# Altium footprint library MCP601T-E_OT.PcbLib: 1 footprints
Each footprint in its own frame and in the unit in brackets; x right, y up, seen from the top. Pads: shape width x height; smd on the part's side, far side on the other; paste and mask are expansions set on the pad; w line width, h text height; cw(c..) or ccw(c..) is an arc to the next point about the centre after c.
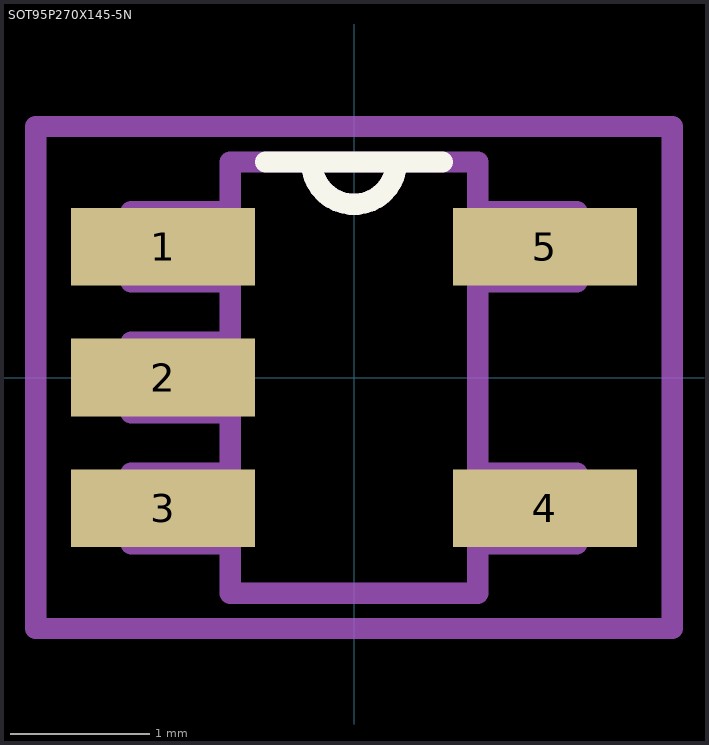
[diagram p0: the footprint, top view; thin cyan lines are the x and y axes]

## SOT95P270X145-5N [mil]
pads (5):
  rect 52x22 smd: 1(-54,37) 2(-54,0) 3(-54,-37) 4(54,-37) 5(54,37)
Top Overlay:
  lines w6: -25,61 -12,61 ; 25,61 12,61 ; -12,61 ccw(c0,61) 12,61 ; -12,61 12,61
Mechanical 13:
  lines w6: -35,-47 -63,-47 -63,-27 -35,-27 ; -35,-47 -35,-27 ; -35,-47 -35,-61 35,-61 35,-47 ; -35,-27 -35,-10 ; -35,-10 -63,-10 -63,10 -35,10 ; -35,-10 -35,10 ; -35,10 -35,27 ; -35,27 -63,27 -63,47 -35,47 ; -35,27 -35,47 ; -35,47 -35,61 -12,61 ; -12,61 ccw(c0,61) 12,61 ; -12,61 12,61 ; 12,61 35,61 35,47 ; 35,-47 63,-47 63,-27 35,-27 ; 35,-47 35,-27 ; 35,-27 35,27 ; 35,27 63,27 63,47 35,47 ; 35,27 35,47
Mechanical 15:
  lines w6: -90,-71 -90,71 90,71 90,-71 -90,-71
3D body "step_temp.STEP": height 57.09, standoff 0, extent -57.09,-53.15 57.09,53.15